# Altium schematic symbol library 原理图库.SCHLIB: 18 symbols
Pins are listed as number, name and electrical type; pins without a type are passive.

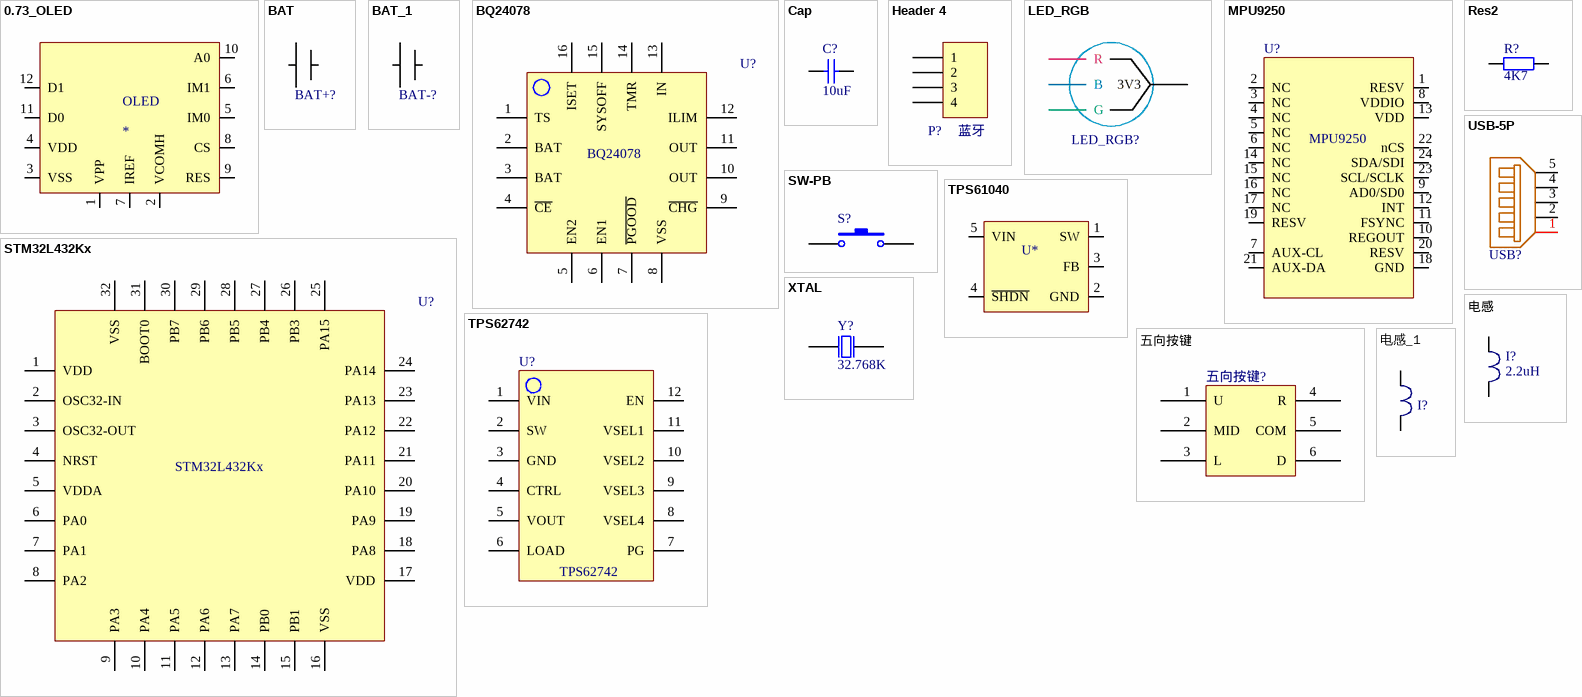
[diagram p0: symbols 0.73_OLED to 电感_1]

## 0.73_OLED
designator OLED
footprint 0.73OLED
pins: 1 VPP, 2 VCOMH, 3 VSS, 4 VDD, 5 IM0, 6 IM1, 7 IREF, 8 CS, 9 RES, 10 A0, 11 D0, 12 D1

## BAT
designator BAT+?  (value not drawn)
footprint BAT+
pins: 1, 2

## BAT_1
designator BAT-?, comment BAT  (value not drawn)
footprint BTA-
pins: 1, 2

## BQ24078
designator U?
充电芯片
footprint BQ24078 (充电芯片)
pins: 1 TS, 2 BAT, 3 BAT, 4 ~{CE}, 5 EN2, 6 EN1, 7 ~{PGOOD}, 8 VSS, 9 ~{CHG}, 10 OUT, 11 OUT, 12 ILIM, 13 IN, 14 TMR, 15 SYSOFF, 16 ISET

## Cap
designator C?, comment 10uF
Capacitor; Value: 105
footprint 1__0603-CAP_
pins: 1, 2

## Header 4
designator P?, comment 蓝牙
Header, 4-Pin
footprint BT
pins: 1, 2, 3, 4

## LED_RGB
designator LED_RGB?, comment L*  (value not drawn)
footprint 1__LED_RGB
pins: 1 R, 2 3V3, 3 G, 4 B

## MPU9250
designator U?
footprint 1__QFN3*3 (改1)
pins: 1 RESV, 2 NC, 3 NC, 4 NC, 5 NC, 6 NC, 7 AUX-CL, 8 VDDIO, 9 AD0/SD0, 10 REGOUT, 11 FSYNC, 12 INT, 13 VDD, 14 NC, 15 NC, 16 NC, 17 NC, 18 GND, 19 RESV, 20 RESV, 21 AUX-DA, 22 nCS, 23 SCL/SCLK, 24 SDA/SDI

## Res2
designator R?, comment 4K7
Resistor; Value: 4K7
footprint 1__0603-RES_
pins: 1, 2

## STM32L432Kx
designator U?
单片机
footprint STM32L432
pins: 1 VDD, 2 OSC32-IN, 3 OSC32-OUT, 4 NRST, 5 VDDA, 6 PA0, 7 PA1, 8 PA2, 9 PA3, 10 PA4, 11 PA5, 12 PA6, 13 PA7, 14 PB0, 15 PB1, 16 VSS, 17 VDD, 18 PA8, 19 PA9, 20 PA10, 21 PA11, 22 PA12, 23 PA13, 24 PA14, 25 PA15, 26 PB3, 27 PB4, 28 PB5, 29 PB6, 30 PB7, 31 BOOT0, 32 VSS

## SW-PB
designator S?
Switch
footprint key3*4*2
pins: 1, 2

## TPS61040
designator U*, comment OLED升压  (value not drawn)
footprint 1__SOT23-5
pins: 1 SW, 2 GND, 3 FB, 4 ~{SHDN}, 5 VIN

## TPS62742
designator U?
锂电池稳压
footprint TPS62742 (稳压芯片)
pins: 1 VIN, 2 SW, 3 GND, 4 CTRL, 5 VOUT, 6 LOAD, 7 PG, 8 VSEL4, 9 VSEL3, 10 VSEL2, 11 VSEL1, 12 EN

## USB-5P
designator USB?  (value not drawn)
USB CONNECTOR
footprint 1__Micro USB 立贴_
pins: 1 VBUS, 2 D-, 3 D+, 4 ID, 5 GND

## XTAL
designator Y?, comment 32.768K
Crystal Oscillator; Value: 16M
footprint OSC32
pins: 1 OSC1, 2 OSC2

## 五向按键
designator 五向按键?  (value not drawn)
footprint 1__五向按键_
pins: 1 U, 2 MID, 3 L, 4 R, 5 COM, 6 D

## 电感
designator I?, comment 2.2uH
Value: 100uH
footprint 1__0805_IND
pins: 1, 2

## 电感_1
designator I?, comment 100uH  (value not drawn)
Value: 100uH
footprint 1__0603_Ind_
pins: 1, 2